# Altium footprint library MOD-RA-02-SX1278.PcbLib: 1 footprints
Each footprint in its own frame and in the unit in brackets; x right, y up, seen from the top. Pads: shape width x height; smd on the part's side, far side on the other; paste and mask are expansions set on the pad; w line width, h text height; cw(c..) or ccw(c..) is an arc to the next point about the centre after c.
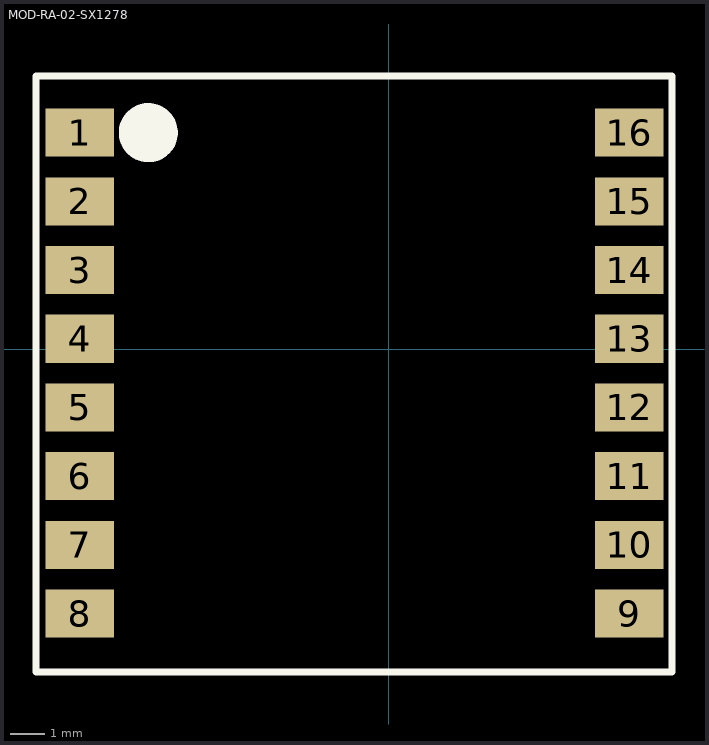
[diagram p0: the footprint, top view; thin cyan lines are the x and y axes]

## MOD-RA-02-SX1278 [mm]
pads (16):
  rect 2x1.4 smd: 1(-9,6.3) 2(-9,4.3) 3(-9,2.3) 4(-9,0.3) 5(-9,-1.7) 6(-9,-3.7) 7(-9,-5.7) 8(-9,-7.7) 9(7,-7.7) 10(7,-5.7) 11(7,-3.7) 12(7,-1.7) 13(7,0.3) 14(7,2.3) 15(7,4.3) 16(7,6.3)
Top Overlay:
  circle w1: c-7,6.3 r0.361
  lines w0.2: -10.275,-9.4 -10.275,7.95 8.25,7.95 8.25,-9.4 -10.275,-9.4
Top Assembly:
  circle w0.6: c-7.025,6.3 r0.1
  lines w0.1: -10.275,-9.4 -10.275,7.95 8.25,7.95 8.25,-9.4 -10.275,-9.4
  text "'.Designator'" at 0,0 h0.7
3D body "RA-02-2.STEP": height 3.2, standoff 0, extent -9,-9.2 7,7.8